# EAGLE library part RES-ARRAY-4FACH (library Widerstands-Netzwerke)
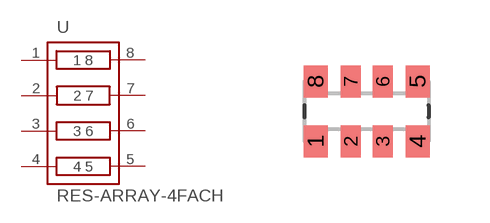
[diagram p0: symbol with the pads of EXB38V; footprint EXB38V]

Designator prefix -

## RES-ARRAY-4FACH (BAUFORM: 0603; FARNELL: 2060100; HERSTELLER: Panasonic; VALUE: 4x1k)  [EXB38V]
1  1
2  2
3  3
4  4
5  5
6  6
7  7
8  8

## Footprint EXB38V (pad centres in mm)
Chip Resistor Array 0603x4 4 resistors in 3.2 mm x 1.6 mm size (EXB38V, V8V) Source: PANASONIC .. aoc0000ce1.pdf
smd 0.6 x 0.8: 1 -1.275,-0.75; 4 1.275,-0.75; 5 1.275,0.75; 8 -1.275,0.75
smd 0.5 x 0.8: 2 -0.4,-0.75; 3 0.4,-0.75; 6 0.4,0.75; 7 -0.4,0.75